# Altium footprint library IND SMD.PcbLib: 1 footprints
Each footprint in its own frame and in the unit in brackets; x right, y up, seen from the top. Pads: shape width x height; smd on the part's side, far side on the other; paste and mask are expansions set on the pad; w line width, h text height; cw(c..) or ccw(c..) is an arc to the next point about the centre after c.
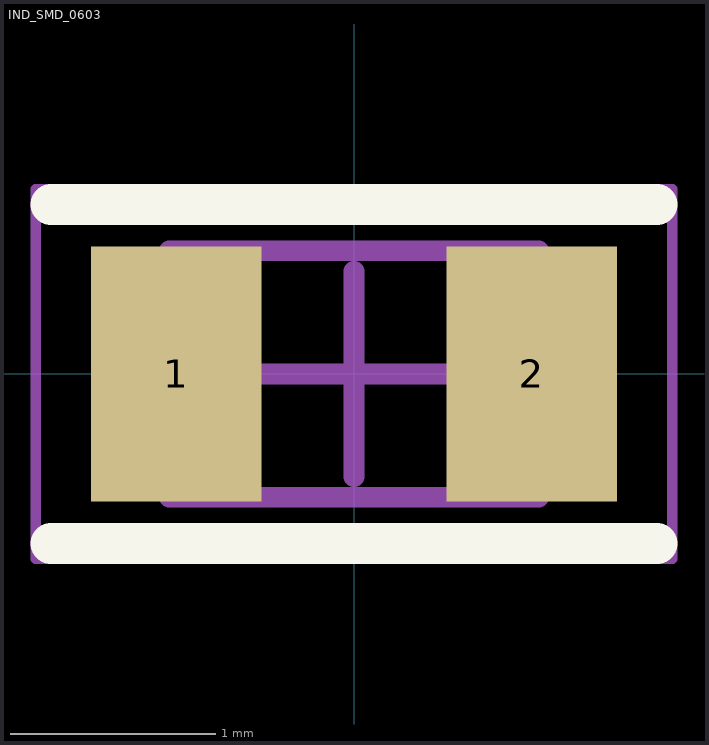
[diagram p0: the footprint, top view; thin cyan lines are the x and y axes]

## IND_SMD_0603 [mm]
height 1
pads (2):
  rect 0.83x1.24 smd: 1(-0.865,0) 2(0.865,0)
Top Overlay:
  lines w0.2: -1.475,-0.825 1.475,-0.825 ; -1.475,0.825 1.475,0.825
Assembly:
  lines w0.1: -0.9,-0.6 0.9,-0.6 0.9,0.6 -0.9,0.6 -0.9,-0.6
Mechanical 15:
  lines w0.05: -1.55,-0.9 1.55,-0.9 1.55,0.9 -1.55,0.9 -1.55,-0.9
  lines w0.1: -0.5,0 0.5,0 ; 0,-0.5 0,0.5
3D body "IND_SMD_0603.step": height 1, standoff 0, extent -0.9,-0.6 0.9,0.6